# Altium schematic symbol library Schlib1.SchLib: 7 symbols
Pins are listed as number, name and electrical type; pins without a type are passive.

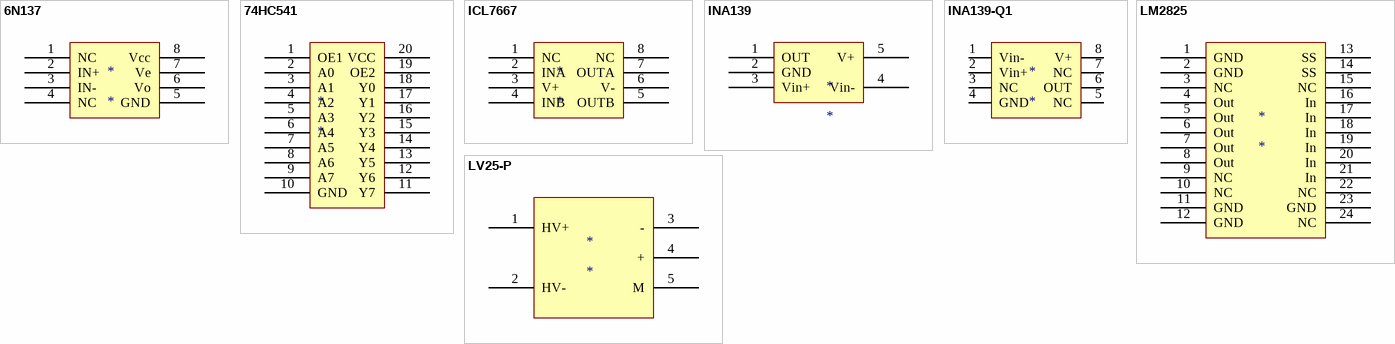
[diagram p0: symbols 6N137 to LV25-P]

## 6N137
designator *
pins: 1 NC, 2 IN+, 3 IN-, 4 NC, 5 GND, 6 Vo, 7 Ve, 8 Vcc

## 74HC541
designator *
pins: 1 OE1, 2 A0, 3 A1, 4 A2, 5 A3, 6 A4, 7 A5, 8 A6, 9 A7, 10 GND, 11 Y7, 12 Y6, 13 Y5, 14 Y4, 15 Y3, 16 Y2, 17 Y1, 18 Y0, 19 OE2, 20 VCC

## ICL7667
designator *
pins: 1 NC, 2 INA, 3 V+, 4 INB, 5 OUTB, 6 V-, 7 OUTA, 8 NC

## INA139
designator *
pins: 1 OUT, 2 GND, 3 Vin+, 4 Vin-, 5 V+

## INA139-Q1
designator *
footprint TSSOP-8
pins: 1 Vin-, 2 Vin+, 3 NC, 4 GND, 5 NC, 6 OUT, 7 NC, 8 V+

## LM2825
designator *
footprint DIP24
pins: 1 GND, 2 GND, 3 NC, 4 Out, 5 Out, 6 Out, 7 Out, 8 Out, 9 NC, 10 NC, 11 GND, 12 GND, 13 SS, 14 SS, 15 NC, 16 In, 17 In, 18 In, 19 In, 20 In, 21 In, 22 NC, 23 GND, 24 NC

## LV25-P
designator *
pins: 1 HV+, 2 HV-, 3 -, 4 +, 5 M